# Altium integrated library Analog Devices Switches and Multiplexers Digital Crosspoint Switches.IntLib: 20 symbols (part 2 of 4)
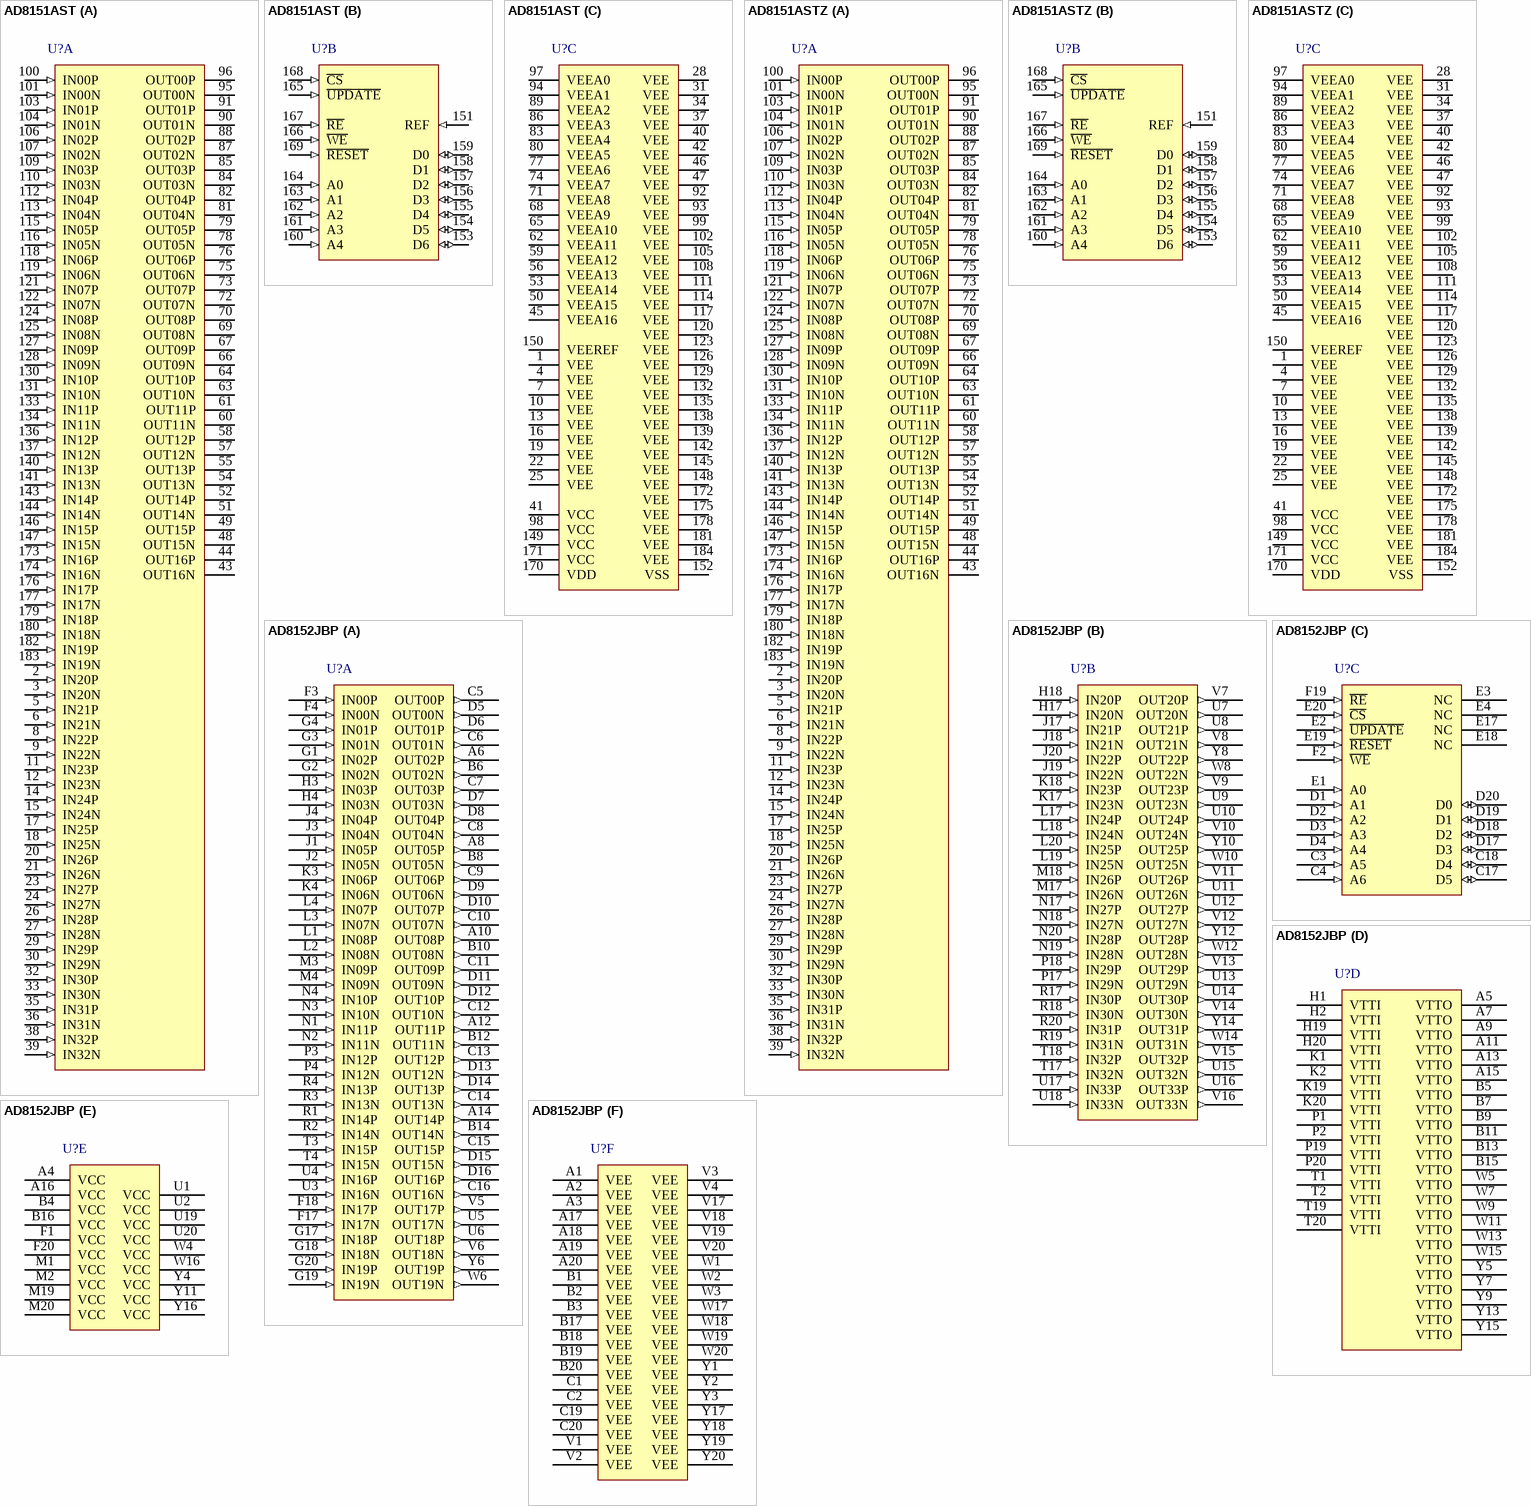
[diagram p5: symbols AD8151AST to AD8152JBP]

## AD8152JBP
designator U?
Xstream(TM) 34 x 34, 3.2 Gbps Asynchronous Digital Crosspoint Switch, 660 ps Prop Delay, 0 to 85 degC, 256-pin BGA (BP-256), Tray; Manufacturer: Analog Devices; PartNumber: AD8152JBP; Control Interface: LVCMOS/LVTTL Parallel; Data Rate (Gbps): 3.2; Input Swing (mV p-p): 50-1000; Prop Delay: 660ps; Output Rise/Fall (ps): 100; Supply Current: 800mA; Voltage Supply Level: LVPECL or CML; DatasheetVersion: Rev. A; PackageReference: BP-256; PackageDescription: 256-Ball Ball Grid Array, Body 27 x 27 mm, Pitch 1.27 mm; Supplier 1: Mouser; Supplier Part Number 1: 584-AD8152JBP; Packing: Tray; Mounting Technology: Surface Mount; Code_JEDEC: MO-192-BAL-2; ComponentLink1Description: Manufacturer URL; ComponentLink1URL: http://www.analog.com/en/index.html; ComponentLink2Description: Datasheet; ComponentLink2URL: http://www.analog.com/static/imported-files/data_sheets/AD8152.pdf; ComponentLink3Description: Package Specification; ComponentLink3URL: http://www.analog.com/static/imported-files/packages/287254833BP_256.pdf
footprint ADI-BP-256 (BGA, 256-Balls, Body 27x27mm, Pitch 1.27mm)
part A pins: A6 OUT02P (out) "High Speed Output", A8 OUT05P (out) "High Speed Output", A10 OUT08P (out) "High Speed Output", A12 OUT11P (out) "High Speed Output", A14 OUT14P (out) "High Speed Output", B6 OUT02N (out) "High Speed Output Complement", B8 OUT05N (out) "High Speed Output Complement", B10 OUT08N (out) "High Speed Output Complement", B12 OUT11N (out) "High Speed Output Complement", B14 OUT14N (out) "High Speed Output Complement", C5 OUT00P (out) "High Speed Output", C6 OUT01N (out) "High Speed Output Complement", C7 OUT03P (out) "High Speed Output", C8 OUT04N (out) "High Speed Output Complement", C9 OUT06P (out) "High Speed Output", C10 OUT07N (out) "High Speed Output Complement", C11 OUT09P (out) "High Speed Output", C12 OUT10N (out) "High Speed Output Complement", C13 OUT12P (out) "High Speed Output", C14 OUT13N (out) "High Speed Output Complement", C15 OUT15P (out) "High Speed Output", C16 OUT16N (out) "High Speed Output Complement", D5 OUT00N (out) "High Speed Output Complement", D6 OUT01P (out) "High Speed Output", D7 OUT03N (out) "High Speed Output Complement", D8 OUT04P (out) "High Speed Output", D9 OUT06N (out) "High Speed Output Complement", D10 OUT07P (out) "High Speed Output", D11 OUT09N (out) "High Speed Output Complement", D12 OUT10P (out) "High Speed Output", D13 OUT12N (out) "High Speed Output Complement", D14 OUT13P (out) "High Speed Output", D15 OUT15N (out) "High Speed Output Complement", D16 OUT16P (out) "High Speed Output", F3 IN00P (in) "High Speed Input", F4 IN00N (in) "High Speed Input Complement", F17 IN17N (in) "High Speed Input Complement", F18 IN17P (in) "High Speed Input", G1 IN02P (in) "High Speed Input", G2 IN02N (in) "High Speed Input Complement", G3 IN01N (in) "High Speed Input Complement", G4 IN01P (in) "High Speed Input", G17 IN18P (in) "High Speed Input", G18 IN18N (in) "High Speed Input Complement", G19 IN19N (in) "High Speed Input Complement", G20 IN19P (in) "High Speed Input", H3 IN03P (in) "High Speed Input", H4 IN03N (in) "High Speed Input Complement", J1 IN05P (in) "High Speed Input", J2 IN05N (in) "High Speed Input Complement", J3 IN04N (in) "High Speed Input Complement", J4 IN04P (in) "High Speed Input", K3 IN06P (in) "High Speed Input", K4 IN06N (in) "High Speed Input Complement", L1 IN08P (in) "High Speed Input", L2 IN08N (in) "High Speed Input Complement", L3 IN07N (in) "High Speed Input Complement", L4 IN07P (in) "High Speed Input", M3 IN09P (in) "High Speed Input", M4 IN09N (in) "High Speed Input Complement", N1 IN11P (in) "High Speed Input", N2 IN11N (in) "High Speed Input Complement", N3 IN10N (in) "High Speed Input Complement", N4 IN10P (in) "High Speed Input", P3 IN12P (in) "High Speed Input", P4 IN12N (in) "High Speed Input Complement", R1 IN14P (in) "High Speed Input", R2 IN14N (in) "High Speed Input Complement", R3 IN13N (in) "High Speed Input Complement", R4 IN13P (in) "High Speed Input", T3 IN15P (in) "High Speed Input", T4 IN15N (in) "High Speed Input Complement", U3 IN16N (in) "High Speed Input Complement", U4 IN16P (in) "High Speed Input", U5 OUT17N (out) "High Speed Output Complement", U6 OUT18P (out) "High Speed Output", V5 OUT17P (out) "High Speed Output", V6 OUT18N (out) "High Speed Output Complement", W6 OUT19N (out) "High Speed Output Complement", Y6 OUT19P (out) "High Speed Output"
part B pins: H17 IN20N (in) "High Speed Input Complement", H18 IN20P (in) "High Speed Input", J17 IN21P (in) "High Speed Input", J18 IN21N (in) "High Speed Input Complement", J19 IN22N (in) "High Speed Input Complement", J20 IN22P (in) "High Speed Input", K17 IN23N (in) "High Speed Input Complement", K18 IN23P (in) "High Speed Input", L17 IN24P (in) "High Speed Input", L18 IN24N (in) "High Speed Input Complement", L19 IN25N (in) "High Speed Input Complement", L20 IN25P (in) "High Speed Input", M17 IN26N (in) "High Speed Input Complement", M18 IN26P (in) "High Speed Input", N17 IN27P (in) "High Speed Input", N18 IN27N (in) "High Speed Input Complement", N19 IN28N (in) "High Speed Input Complement", N20 IN28P (in) "High Speed Input", P17 IN29N (in) "High Speed Input Complement", P18 IN29P (in) "High Speed Input", R17 IN30P (in) "High Speed Input", R18 IN30N (in) "High Speed Input Complement", R19 IN31N (in) "High Speed Input Complement", R20 IN31P (in) "High Speed Input", T17 IN32N (in) "High Speed Input Complement", T18 IN32P (in) "High Speed Input", U7 OUT20N (out) "High Speed Output Complement", U8 OUT21P (out) "High Speed Output", U9 OUT23N (out) "High Speed Output Complement", U10 OUT24P (out) "High Speed Output", U11 OUT26N (out) "High Speed Output Complement", U12 OUT27P (out) "High Speed Output", U13 OUT29N (out) "High Speed Output Complement", U14 OUT30P (out) "High Speed Output", U15 OUT32N (out) "High Speed Output Complement", U16 OUT33P (out) "High Speed Output", U17 IN33P (in) "High Speed Input", U18 IN33N (in) "High Speed Input Complement", V7 OUT20P (out) "High Speed Output", V8 OUT21N (out) "High Speed Output Complement", V9 OUT23P (out) "High Speed Output", V10 OUT24N (out) "High Speed Output Complement", V11 OUT26P (out) "High Speed Output", V12 OUT27N (out) "High Speed Output Complement", V13 OUT29P (out) "High Speed Output", V14 OUT30N (out) "High Speed Output Complement", V15 OUT32P (out) "High Speed Output", V16 OUT33N (out) "High Speed Output Complement", W8 OUT22N (out) "High Speed Output Complement", W10 OUT25N (out) "High Speed Output Complement", W12 OUT28N (out) "High Speed Output Complement", W14 OUT31N (out) "High Speed Output Complement", Y8 OUT22P (out) "High Speed Output", Y10 OUT25P (out) "High Speed Output", Y12 OUT28P (out) "High Speed Output", Y14 OUT31P (out) "High Speed Output"
part C pins: C3 A5 (in) "Output Address Pin (MSB)", C4 A6 (in) "Output Address Pin (Bank Des.)", C17 D5 (io) "Input Address Pin (MSB)", C18 D4 (io) "Input Address Pin", D1 A1 (in) "Output Address Pin", D2 A2 (in) "Output Address Pin", D3 A3 (in) "Output Address Pin", D4 A4 (in) "Output Address Pin", D17 D3 (io) "Input Address Pin", D18 D2 (io) "Input Address Pin", D19 D1 (io) "Input Address Pin", D20 D0 (io) "Input Address Pin(LSB)", E1 A0 (in) "Output Address Pin(LSB)", E2 ~{UPDATE} (in) "Second Rank Write Enable", E3 NC "Do Not Connect", E4 NC "Do Not Connect", E17 NC "Do Not Connect", E18 NC "Do Not Connect", E19 ~{RESET} (in) "Reset/Disable Outputs", E20 ~{CS} (in) "Chip Select Enable", F2 ~{WE} (in) "First Rank Write Enable", F19 ~{RE} (in) "Readback Enable"
part D pins: A5 VTTO (power) "Output Termination Supply", A7 VTTO (power) "Output Termination Supply", A9 VTTO (power) "Output Termination Supply", A11 VTTO (power) "Output Termination Supply", A13 VTTO (power) "Output Termination Supply", A15 VTTO (power) "Output Termination Supply", B5 VTTO (power) "Output Termination Supply", B7 VTTO (power) "Output Termination Supply", B9 VTTO (power) "Output Termination Supply", B11 VTTO (power) "Output Termination Supply", B13 VTTO (power) "Output Termination Supply", B15 VTTO (power) "Output Termination Supply", H1 VTTI (power) "Input Termination Supply", H2 VTTI (power) "Input Termination Supply", H19 VTTI (power) "Input Termination Supply", H20 VTTI (power) "Input Termination Supply", K1 VTTI (power) "Input Termination Supply", K2 VTTI (power) "Input Termination Supply", K19 VTTI (power) "Input Termination Supply", K20 VTTI (power) "Input Termination Supply", P1 VTTI (power) "Input Termination Supply", P2 VTTI (power) "Input Termination Supply", P19 VTTI (power) "Input Termination Supply", P20 VTTI (power) "Input Termination Supply", T1 VTTI (power) "Input Termination Supply", T2 VTTI (power) "Input Termination Supply", T19 VTTI (power) "Input Termination Supply", T20 VTTI (power) "Input Termination Supply", W5 VTTO (power) "Output Termination Supply", W7 VTTO (power) "Output Termination Supply", W9 VTTO (power) "Output Termination Supply", W11 VTTO (power) "Output Termination Supply", W13 VTTO (power) "Output Termination Supply", W15 VTTO (power) "Output Termination Supply", Y5 VTTO (power) "Output Termination Supply", Y7 VTTO (power) "Output Termination Supply", Y9 VTTO (power) "Output Termination Supply", Y13 VTTO (power) "Output Termination Supply", Y15 VTTO (power) "Output Termination Supply"
part E pins: A4 VCC (power) "Positive Supply", A16 VCC (power) "Positive Supply", B4 VCC (power) "Positive Supply", B16 VCC (power) "Positive Supply", F1 VCC (power) "Positive Supply", F20 VCC (power) "Positive Supply", M1 VCC (power) "Positive Supply", M2 VCC (power) "Positive Supply", M19 VCC (power) "Positive Supply", M20 VCC (power) "Positive Supply", U1 VCC (power) "Positive Supply", U2 VCC (power) "Positive Supply", U19 VCC (power) "Positive Supply", U20 VCC (power) "Positive Supply", W4 VCC (power) "Positive Supply", W16 VCC (power) "Positive Supply", Y4 VCC (power) "Positive Supply", Y11 VCC (power) "Positive Supply", Y16 VCC (power) "Positive Supply"
part F pins: A1 VEE (power) "Negative Supply", A2 VEE (power) "Negative Supply", A3 VEE (power) "Negative Supply", A17 VEE (power) "Negative Supply", A18 VEE (power) "Negative Supply", A19 VEE (power) "Negative Supply", A20 VEE (power) "Negative Supply", B1 VEE (power) "Negative Supply", B2 VEE (power) "Negative Supply", B3 VEE (power) "Negative Supply", B17 VEE (power) "Negative Supply", B18 VEE (power) "Negative Supply", B19 VEE (power) "Negative Supply", B20 VEE (power) "Negative Supply", C1 VEE (power) "Negative Supply", C2 VEE (power) "Negative Supply", C19 VEE (power) "Negative Supply", C20 VEE (power) "Negative Supply", V1 VEE (power) "Negative Supply", V2 VEE (power) "Negative Supply", V3 VEE (power) "Negative Supply", V4 VEE (power) "Negative Supply", V17 VEE (power) "Negative Supply", V18 VEE (power) "Negative Supply", V19 VEE (power) "Negative Supply", V20 VEE (power) "Negative Supply", W1 VEE (power) "Negative Supply", W2 VEE (power) "Negative Supply", W3 VEE (power) "Negative Supply", W17 VEE (power) "Negative Supply", W18 VEE (power) "Negative Supply", W19 VEE (power) "Negative Supply", W20 VEE (power) "Negative Supply", Y1 VEE (power) "Negative Supply", Y2 VEE (power) "Negative Supply", Y3 VEE (power) "Negative Supply", Y17 VEE (power) "Negative Supply", Y18 VEE (power) "Negative Supply", Y19 VEE (power) "Negative Supply", Y20 VEE (power) "Negative Supply"

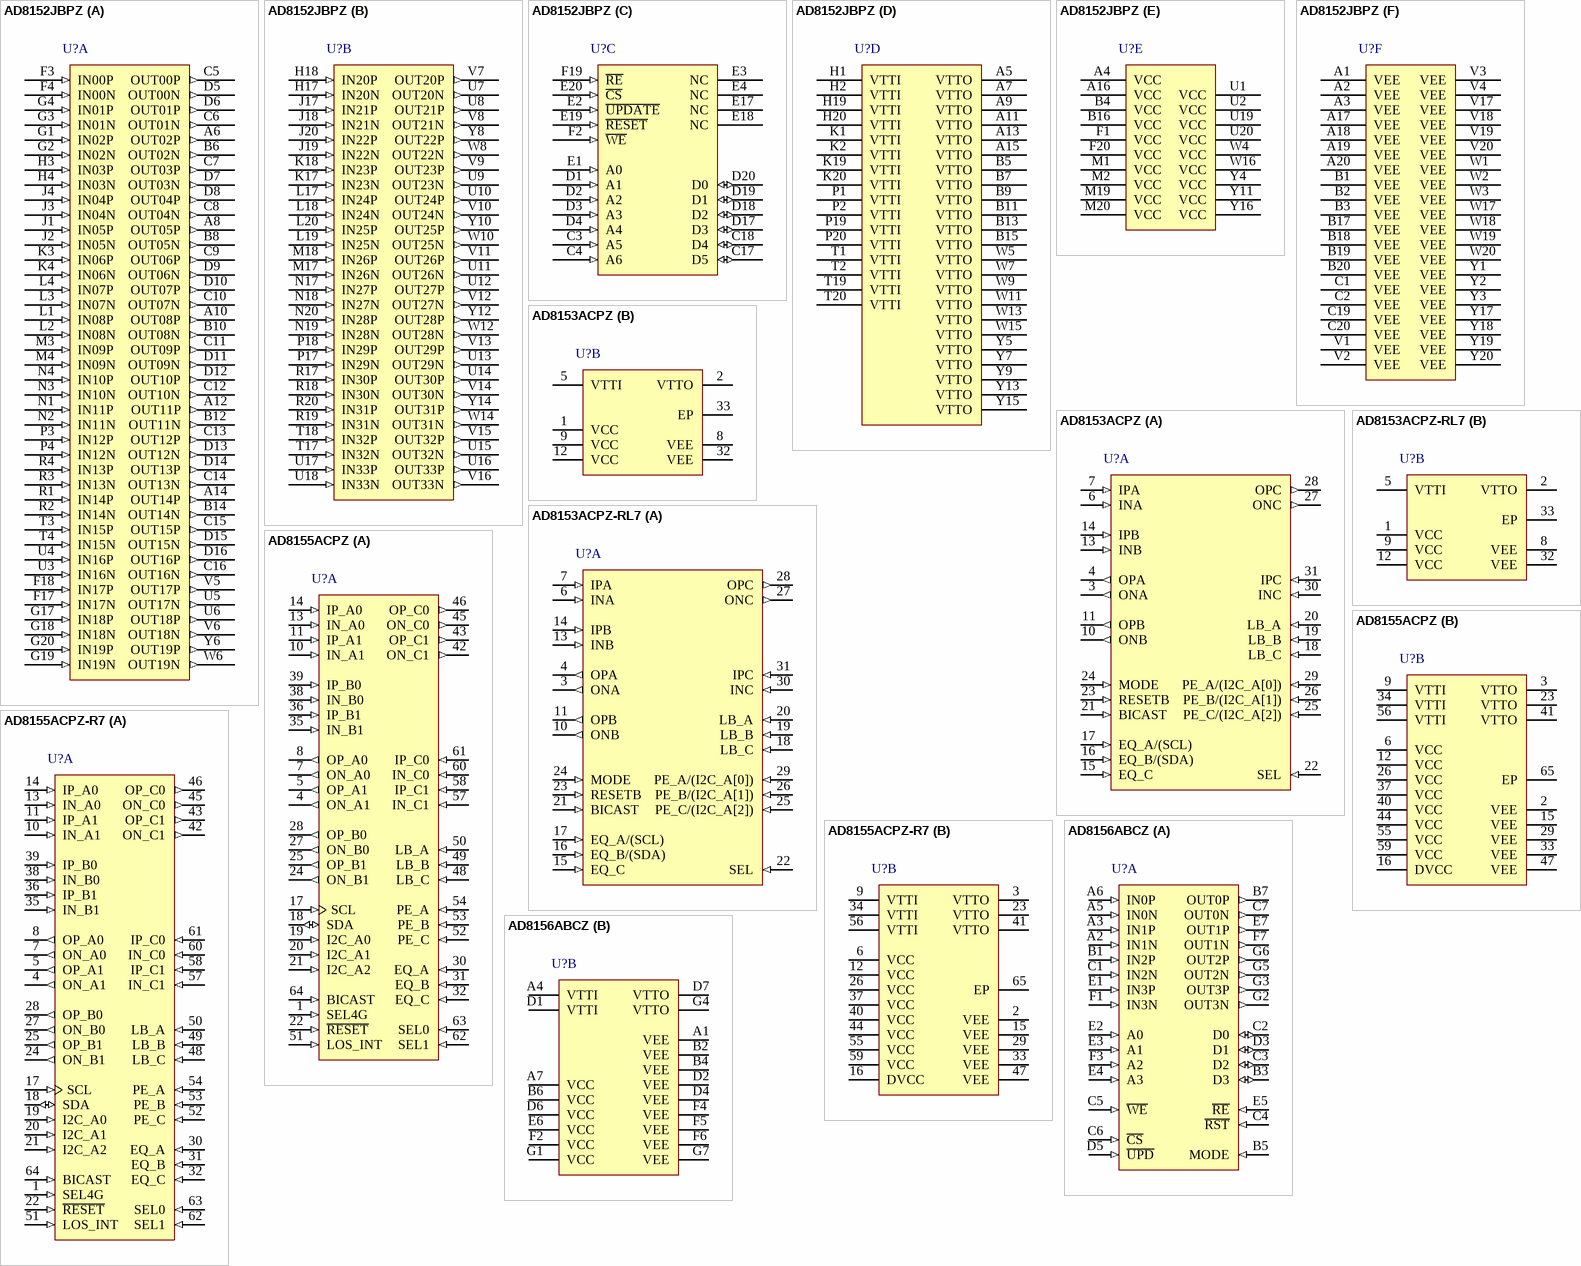
[diagram p2: symbols AD8152JBPZ to AD8156ABCZ]

## AD8152JBPZ
designator U?
Xstream(TM) 34 x 34, 3.2 Gbps Asynchronous Digital Crosspoint Switch, 660 ps Prop Delay, 0 to 85 degC, 256-pin BGA (BP-256), Tray; Manufacturer: Analog Devices; PartNumber: AD8152JBPZ; Control Interface: LVCMOS/LVTTL Parallel; Data Rate (Gbps): 3.2; Input Swing (mV p-p): 50-1000; Prop Delay: 660ps; Output Rise/Fall (ps): 100; Supply Current: 800mA; Voltage Supply Level: LVPECL or CML; DatasheetVersion: Rev. A; PackageReference: BP-256; PackageDescription: 256-Ball Ball Grid Array, Body 27 x 27 mm, Pitch 1.27 mm; Supplier 1: Digi-Key; Supplier Part Number 1: AD8152JBPZ-ND; Supplier 2: Newark; Supplier Part Number 2: 59K6445; Supplier 3: Mouser; Supplier Part Number 3: 584-AD8152JBPZ; Packing: Tray; Mounting Technology: Surface Mount; Code_JEDEC: MO-192-BAL-2; ComponentLink1Description: Manufacturer URL; ComponentLink1URL: http://www.analog.com/en/index.html; ComponentLink2Description: Datasheet; ComponentLink2URL: http://www.analog.com/static/imported-files/data_sheets/AD8152.pdf; ComponentLink3Description: Package Specification; ComponentLink3URL: http://www.analog.com/static/imported-files/packages/287254833BP_256.pdf
footprint ADI-BP-256 (BGA, 256-Balls, Body 27x27mm, Pitch 1.27mm)
part A pins: A6 OUT02P (out) "High Speed Output", A8 OUT05P (out) "High Speed Output", A10 OUT08P (out) "High Speed Output", A12 OUT11P (out) "High Speed Output", A14 OUT14P (out) "High Speed Output", B6 OUT02N (out) "High Speed Output Complement", B8 OUT05N (out) "High Speed Output Complement", B10 OUT08N (out) "High Speed Output Complement", B12 OUT11N (out) "High Speed Output Complement", B14 OUT14N (out) "High Speed Output Complement", C5 OUT00P (out) "High Speed Output", C6 OUT01N (out) "High Speed Output Complement", C7 OUT03P (out) "High Speed Output", C8 OUT04N (out) "High Speed Output Complement", C9 OUT06P (out) "High Speed Output", C10 OUT07N (out) "High Speed Output Complement", C11 OUT09P (out) "High Speed Output", C12 OUT10N (out) "High Speed Output Complement", C13 OUT12P (out) "High Speed Output", C14 OUT13N (out) "High Speed Output Complement", C15 OUT15P (out) "High Speed Output", C16 OUT16N (out) "High Speed Output Complement", D5 OUT00N (out) "High Speed Output Complement", D6 OUT01P (out) "High Speed Output", D7 OUT03N (out) "High Speed Output Complement", D8 OUT04P (out) "High Speed Output", D9 OUT06N (out) "High Speed Output Complement", D10 OUT07P (out) "High Speed Output", D11 OUT09N (out) "High Speed Output Complement", D12 OUT10P (out) "High Speed Output", D13 OUT12N (out) "High Speed Output Complement", D14 OUT13P (out) "High Speed Output", D15 OUT15N (out) "High Speed Output Complement", D16 OUT16P (out) "High Speed Output", F3 IN00P (in) "High Speed Input", F4 IN00N (in) "High Speed Input Complement", F17 IN17N (in) "High Speed Input Complement", F18 IN17P (in) "High Speed Input", G1 IN02P (in) "High Speed Input", G2 IN02N (in) "High Speed Input Complement", G3 IN01N (in) "High Speed Input Complement", G4 IN01P (in) "High Speed Input", G17 IN18P (in) "High Speed Input", G18 IN18N (in) "High Speed Input Complement", G19 IN19N (in) "High Speed Input Complement", G20 IN19P (in) "High Speed Input", H3 IN03P (in) "High Speed Input", H4 IN03N (in) "High Speed Input Complement", J1 IN05P (in) "High Speed Input", J2 IN05N (in) "High Speed Input Complement", J3 IN04N (in) "High Speed Input Complement", J4 IN04P (in) "High Speed Input", K3 IN06P (in) "High Speed Input", K4 IN06N (in) "High Speed Input Complement", L1 IN08P (in) "High Speed Input", L2 IN08N (in) "High Speed Input Complement", L3 IN07N (in) "High Speed Input Complement", L4 IN07P (in) "High Speed Input", M3 IN09P (in) "High Speed Input", M4 IN09N (in) "High Speed Input Complement", N1 IN11P (in) "High Speed Input", N2 IN11N (in) "High Speed Input Complement", N3 IN10N (in) "High Speed Input Complement", N4 IN10P (in) "High Speed Input", P3 IN12P (in) "High Speed Input", P4 IN12N (in) "High Speed Input Complement", R1 IN14P (in) "High Speed Input", R2 IN14N (in) "High Speed Input Complement", R3 IN13N (in) "High Speed Input Complement", R4 IN13P (in) "High Speed Input", T3 IN15P (in) "High Speed Input", T4 IN15N (in) "High Speed Input Complement", U3 IN16N (in) "High Speed Input Complement", U4 IN16P (in) "High Speed Input", U5 OUT17N (out) "High Speed Output Complement", U6 OUT18P (out) "High Speed Output", V5 OUT17P (out) "High Speed Output", V6 OUT18N (out) "High Speed Output Complement", W6 OUT19N (out) "High Speed Output Complement", Y6 OUT19P (out) "High Speed Output"
part B pins: H17 IN20N (in) "High Speed Input Complement", H18 IN20P (in) "High Speed Input", J17 IN21P (in) "High Speed Input", J18 IN21N (in) "High Speed Input Complement", J19 IN22N (in) "High Speed Input Complement", J20 IN22P (in) "High Speed Input", K17 IN23N (in) "High Speed Input Complement", K18 IN23P (in) "High Speed Input", L17 IN24P (in) "High Speed Input", L18 IN24N (in) "High Speed Input Complement", L19 IN25N (in) "High Speed Input Complement", L20 IN25P (in) "High Speed Input", M17 IN26N (in) "High Speed Input Complement", M18 IN26P (in) "High Speed Input", N17 IN27P (in) "High Speed Input", N18 IN27N (in) "High Speed Input Complement", N19 IN28N (in) "High Speed Input Complement", N20 IN28P (in) "High Speed Input", P17 IN29N (in) "High Speed Input Complement", P18 IN29P (in) "High Speed Input", R17 IN30P (in) "High Speed Input", R18 IN30N (in) "High Speed Input Complement", R19 IN31N (in) "High Speed Input Complement", R20 IN31P (in) "High Speed Input", T17 IN32N (in) "High Speed Input Complement", T18 IN32P (in) "High Speed Input", U7 OUT20N (out) "High Speed Output Complement", U8 OUT21P (out) "High Speed Output", U9 OUT23N (out) "High Speed Output Complement", U10 OUT24P (out) "High Speed Output", U11 OUT26N (out) "High Speed Output Complement", U12 OUT27P (out) "High Speed Output", U13 OUT29N (out) "High Speed Output Complement", U14 OUT30P (out) "High Speed Output", U15 OUT32N (out) "High Speed Output Complement", U16 OUT33P (out) "High Speed Output", U17 IN33P (in) "High Speed Input", U18 IN33N (in) "High Speed Input Complement", V7 OUT20P (out) "High Speed Output", V8 OUT21N (out) "High Speed Output Complement", V9 OUT23P (out) "High Speed Output", V10 OUT24N (out) "High Speed Output Complement", V11 OUT26P (out) "High Speed Output", V12 OUT27N (out) "High Speed Output Complement", V13 OUT29P (out) "High Speed Output", V14 OUT30N (out) "High Speed Output Complement", V15 OUT32P (out) "High Speed Output", V16 OUT33N (out) "High Speed Output Complement", W8 OUT22N (out) "High Speed Output Complement", W10 OUT25N (out) "High Speed Output Complement", W12 OUT28N (out) "High Speed Output Complement", W14 OUT31N (out) "High Speed Output Complement", Y8 OUT22P (out) "High Speed Output", Y10 OUT25P (out) "High Speed Output", Y12 OUT28P (out) "High Speed Output", Y14 OUT31P (out) "High Speed Output"
part C pins: C3 A5 (in) "Output Address Pin (MSB)", C4 A6 (in) "Output Address Pin (Bank Des.)", C17 D5 (io) "Input Address Pin (MSB)", C18 D4 (io) "Input Address Pin", D1 A1 (in) "Output Address Pin", D2 A2 (in) "Output Address Pin", D3 A3 (in) "Output Address Pin", D4 A4 (in) "Output Address Pin", D17 D3 (io) "Input Address Pin", D18 D2 (io) "Input Address Pin", D19 D1 (io) "Input Address Pin", D20 D0 (io) "Input Address Pin(LSB)", E1 A0 (in) "Output Address Pin(LSB)", E2 ~{UPDATE} (in) "Second Rank Write Enable", E3 NC "Do Not Connect", E4 NC "Do Not Connect", E17 NC "Do Not Connect", E18 NC "Do Not Connect", E19 ~{RESET} (in) "Reset/Disable Outputs", E20 ~{CS} (in) "Chip Select Enable", F2 ~{WE} (in) "First Rank Write Enable", F19 ~{RE} (in) "Readback Enable"
part D pins: A5 VTTO (power) "Output Termination Supply", A7 VTTO (power) "Output Termination Supply", A9 VTTO (power) "Output Termination Supply", A11 VTTO (power) "Output Termination Supply", A13 VTTO (power) "Output Termination Supply", A15 VTTO (power) "Output Termination Supply", B5 VTTO (power) "Output Termination Supply", B7 VTTO (power) "Output Termination Supply", B9 VTTO (power) "Output Termination Supply", B11 VTTO (power) "Output Termination Supply", B13 VTTO (power) "Output Termination Supply", B15 VTTO (power) "Output Termination Supply", H1 VTTI (power) "Input Termination Supply", H2 VTTI (power) "Input Termination Supply", H19 VTTI (power) "Input Termination Supply", H20 VTTI (power) "Input Termination Supply", K1 VTTI (power) "Input Termination Supply", K2 VTTI (power) "Input Termination Supply", K19 VTTI (power) "Input Termination Supply", K20 VTTI (power) "Input Termination Supply", P1 VTTI (power) "Input Termination Supply", P2 VTTI (power) "Input Termination Supply", P19 VTTI (power) "Input Termination Supply", P20 VTTI (power) "Input Termination Supply", T1 VTTI (power) "Input Termination Supply", T2 VTTI (power) "Input Termination Supply", T19 VTTI (power) "Input Termination Supply", T20 VTTI (power) "Input Termination Supply", W5 VTTO (power) "Output Termination Supply", W7 VTTO (power) "Output Termination Supply", W9 VTTO (power) "Output Termination Supply", W11 VTTO (power) "Output Termination Supply", W13 VTTO (power) "Output Termination Supply", W15 VTTO (power) "Output Termination Supply", Y5 VTTO (power) "Output Termination Supply", Y7 VTTO (power) "Output Termination Supply", Y9 VTTO (power) "Output Termination Supply", Y13 VTTO (power) "Output Termination Supply", Y15 VTTO (power) "Output Termination Supply"
part E pins: A4 VCC (power) "Positive Supply", A16 VCC (power) "Positive Supply", B4 VCC (power) "Positive Supply", B16 VCC (power) "Positive Supply", F1 VCC (power) "Positive Supply", F20 VCC (power) "Positive Supply", M1 VCC (power) "Positive Supply", M2 VCC (power) "Positive Supply", M19 VCC (power) "Positive Supply", M20 VCC (power) "Positive Supply", U1 VCC (power) "Positive Supply", U2 VCC (power) "Positive Supply", U19 VCC (power) "Positive Supply", U20 VCC (power) "Positive Supply", W4 VCC (power) "Positive Supply", W16 VCC (power) "Positive Supply", Y4 VCC (power) "Positive Supply", Y11 VCC (power) "Positive Supply", Y16 VCC (power) "Positive Supply"
part F pins: A1 VEE (power) "Negative Supply", A2 VEE (power) "Negative Supply", A3 VEE (power) "Negative Supply", A17 VEE (power) "Negative Supply", A18 VEE (power) "Negative Supply", A19 VEE (power) "Negative Supply", A20 VEE (power) "Negative Supply", B1 VEE (power) "Negative Supply", B2 VEE (power) "Negative Supply", B3 VEE (power) "Negative Supply", B17 VEE (power) "Negative Supply", B18 VEE (power) "Negative Supply", B19 VEE (power) "Negative Supply", B20 VEE (power) "Negative Supply", C1 VEE (power) "Negative Supply", C2 VEE (power) "Negative Supply", C19 VEE (power) "Negative Supply", C20 VEE (power) "Negative Supply", V1 VEE (power) "Negative Supply", V2 VEE (power) "Negative Supply", V3 VEE (power) "Negative Supply", V4 VEE (power) "Negative Supply", V17 VEE (power) "Negative Supply", V18 VEE (power) "Negative Supply", V19 VEE (power) "Negative Supply", V20 VEE (power) "Negative Supply", W1 VEE (power) "Negative Supply", W2 VEE (power) "Negative Supply", W3 VEE (power) "Negative Supply", W17 VEE (power) "Negative Supply", W18 VEE (power) "Negative Supply", W19 VEE (power) "Negative Supply", W20 VEE (power) "Negative Supply", Y1 VEE (power) "Negative Supply", Y2 VEE (power) "Negative Supply", Y3 VEE (power) "Negative Supply", Y17 VEE (power) "Negative Supply", Y18 VEE (power) "Negative Supply", Y19 VEE (power) "Negative Supply", Y20 VEE (power) "Negative Supply"

## AD8153ACPZ
designator U?
Xstream(TM) 3.2 Gbps Single Buffered Mux / Demux Switch, 640 ps Prop Delay, -40 to 85 degC, 32-pin QFN (CP-32-8), Tray; Manufacturer: Analog Devices; PartNumber: AD8153ACPZ; Control Interface: I2C; Data Rate (Gbps): 3.2; Input Swing (mV p-p): 200-2000; Prop Delay: 640ps; Output Rise/Fall (ps): 85; Supply Current: 63mA; DatasheetVersion: Rev. 0; PackageVersion: 080306-A, 08/2006; PackageReference: CP-32-8; PackageDescription: 32-Pin Lead Frame Chip Scale Package, Body 5 x 5 mm, Pitch 0.5 mm; Supplier 1: Digi-Key; Supplier Part Number 1: AD8153ACPZ-ND; Supplier 2: Mouser; Supplier Part Number 2: 584-AD8153ACPZ; Packing: Tray; Mounting Technology: Surface Mount; Code_JEDEC: MO-220-VHHD-2; ComponentLink1Description: Manufacturer URL; ComponentLink1URL: http://www.analog.com/en/index.html; ComponentLink2Description: Datasheet; ComponentLink2URL: http://www.analog.com/static/imported-files/data_sheets/AD8153.pdf; ComponentLink3Description: Package Specification; ComponentLink3URL: http://www.analog.com/static/imported-files/packages/3743763361381667927CP_32_8.pdf
footprint ADI-CP-32-8_N (QFN, 32-Leads, Body 5x5mm, Pitch 0.5mm, Thermal Pad 2.7x2.7mm, IPC Medium Density)
footprint ADI-CP-32-8_L (QFN, 32-Leads, Body 5x5mm, Pitch 0.5mm, Thermal Pad 2.7x2.7mm, IPC High Density)
footprint ADI-CP-32-8_M (QFN, 32-Leads, Body 5x5mm, Pitch 0.5mm, Thermal Pad 2.7x2.7mm, IPC Low Density)
part A pins: 3 ONA (out) "High Speed Output Complement.", 4 OPA (out) "High Speed Output.", 6 INA (in) "High Speed Input Complement.", 7 IPA (in) "High Speed Input.", 10 ONB (out) "High Speed Output Complement.", 11 OPB (out) "High Speed Output.", 13 INB (in) "High Speed Input Complement.", 14 IPB (in) "High Speed Input.", 15 EQ_C (in) "Port C Input Equalization Control.", 16 EQ_B/(SDA) (in) "Port B Input Equalization Control/(I2C Data when MODE = 1).", 17 EQ_A/(SCL) (in) "Port A Input Equalization Control/(I2C Clock when MODE = 1).", 18 LB_C (in) "Port C Loopback Enable.", 19 LB_B (in) "Port B Loopback Enable.", 20 LB_A (in) "Port A Loopback Enable.", 21 BICAST (in) "Bicast Enable.", 22 SEL (in) "A/B Select.", 23 RESETB (in) "Configuration Registers Reset.", 24 MODE (in) "Configuration Mode. 1 for Serial/Mixed Mode, 0 for Pin Mode.", 25 PE_C/(I2C_A[2]) (in) "Port C Pre-Emphasis Control/(I2C Slave Address Bit 2 when MODE = 1).", 26 PE_B/(I2C_A[1]) (in) "Port B Pre-Emphasis Control/(I2C Slave Address Bit 1 when MODE = 1).", 27 ONC (out) "High Speed Output Complement.", 28 OPC (out) "High Speed Output.", 29 PE_A/(I2C_A[0]) (in) "Port A Pre-Emphasis Control/(I2C Slave Address Bit 0 when MODE = 1).", 30 INC (in) "High Speed Input Complement.", 31 IPC (in) "High Speed Output."
part B pins: 1 VCC (power) "Positive Supply.", 2 VTTO (power) "Output Termination Supply.", 5 VTTI (power) "Input Termination Supply.", 8 VEE (power) "Negative Supply.", 9 VCC (power) "Positive Supply.", 12 VCC (power) "Positive Supply.", 32 VEE (power) "Negative Supply.", 33 EP (power) "Negative Supply."

## AD8153ACPZ-RL7
designator U?
Xstream(TM) 3.2 Gbps Single Buffered Mux / Demux Switch, 640 ps Prop Delay, -40 to 85 degC, 32-pin QFN (CP-32-8), Reel; Manufacturer: Analog Devices; PartNumber: AD8153ACPZ-RL7; Control Interface: I2C; Data Rate (Gbps): 3.2; Input Swing (mV p-p): 200-2000; Prop Delay: 640ps; Output Rise/Fall (ps): 85; Supply Current: 63mA; DatasheetVersion: Rev. 0; PackageVersion: 080306-A, 08/2006; PackageReference: CP-32-8; PackageDescription: 32-Pin Lead Frame Chip Scale Package, Body 5 x 5 mm, Pitch 0.5 mm; Supplier 1: Digi-Key; Supplier Part Number 1: AD8153ACPZ-RL7TR-ND; Supplier 2: Digi-Key; Supplier Part Number 2: AD8153ACPZ-RL7CT-ND; Supplier 3: Digi-Key; Supplier Part Number 3: AD8153ACPZ-RL7DKR-ND; Supplier 4: Mouser; Supplier Part Number 4: 584-AD8153ACPZ-R7; Packing: Reel; Mounting Technology: Surface Mount; Code_JEDEC: MO-220-VHHD-2; ComponentLink1Description: Manufacturer URL; ComponentLink1URL: http://www.analog.com/en/index.html; ComponentLink2Description: Datasheet; ComponentLink2URL: http://www.analog.com/static/imported-files/data_sheets/AD8153.pdf; ComponentLink3Description: Package Specification; ComponentLink3URL: http://www.analog.com/static/imported-files/packages/3743763361381667927CP_32_8.pdf
footprint ADI-CP-32-8_N (QFN, 32-Leads, Body 5x5mm, Pitch 0.5mm, Thermal Pad 2.7x2.7mm, IPC Medium Density)
footprint ADI-CP-32-8_L (QFN, 32-Leads, Body 5x5mm, Pitch 0.5mm, Thermal Pad 2.7x2.7mm, IPC High Density)
footprint ADI-CP-32-8_M (QFN, 32-Leads, Body 5x5mm, Pitch 0.5mm, Thermal Pad 2.7x2.7mm, IPC Low Density)
part A pins: 3 ONA (out) "High Speed Output Complement.", 4 OPA (out) "High Speed Output.", 6 INA (in) "High Speed Input Complement.", 7 IPA (in) "High Speed Input.", 10 ONB (out) "High Speed Output Complement.", 11 OPB (out) "High Speed Output.", 13 INB (in) "High Speed Input Complement.", 14 IPB (in) "High Speed Input.", 15 EQ_C (in) "Port C Input Equalization Control.", 16 EQ_B/(SDA) (in) "Port B Input Equalization Control/(I2C Data when MODE = 1).", 17 EQ_A/(SCL) (in) "Port A Input Equalization Control/(I2C Clock when MODE = 1).", 18 LB_C (in) "Port C Loopback Enable.", 19 LB_B (in) "Port B Loopback Enable.", 20 LB_A (in) "Port A Loopback Enable.", 21 BICAST (in) "Bicast Enable.", 22 SEL (in) "A/B Select.", 23 RESETB (in) "Configuration Registers Reset.", 24 MODE (in) "Configuration Mode. 1 for Serial/Mixed Mode, 0 for Pin Mode.", 25 PE_C/(I2C_A[2]) (in) "Port C Pre-Emphasis Control/(I2C Slave Address Bit 2 when MODE = 1).", 26 PE_B/(I2C_A[1]) (in) "Port B Pre-Emphasis Control/(I2C Slave Address Bit 1 when MODE = 1).", 27 ONC (out) "High Speed Output Complement.", 28 OPC (out) "High Speed Output.", 29 PE_A/(I2C_A[0]) (in) "Port A Pre-Emphasis Control/(I2C Slave Address Bit 0 when MODE = 1).", 30 INC (in) "High Speed Input Complement.", 31 IPC (in) "High Speed Output."
part B pins: 1 VCC (power) "Positive Supply.", 2 VTTO (power) "Output Termination Supply.", 5 VTTI (power) "Input Termination Supply.", 8 VEE (power) "Negative Supply.", 9 VCC (power) "Positive Supply.", 12 VCC (power) "Positive Supply.", 32 VEE (power) "Negative Supply.", 33 EP (power) "Negative Supply."

## AD8155ACPZ
designator U?
Xstream(TM) 6.5 Gbps Dual Buffer Mux / Demux, 700 ps Prop Delay, -40 to 85 degC, 64-pin QFN (CP-64-2), Tray; Manufacturer: Analog Devices; PartNumber: AD8155ACPZ; Control Interface: I2C; Data Rate (Gbps): 6.5; Input Swing (mV p-p): 200-2000; Prop Delay: 700ps; Output Rise/Fall (ps): 62; Supply Current: 850mA; DatasheetVersion: Rev. 0; PackageReference: CP-64-2; PackageDescription: 64-Pin Lead Frame Chip Scale Package, Body 9 x 9 mm, Pitch 0.5 mm; Supplier 1: Digi-Key; Supplier Part Number 1: AD8155ACPZ-ND; Supplier 2: Newark; Supplier Part Number 2: 26R2474; Supplier 3: Mouser; Supplier Part Number 3: 584-AD8155ACPZ; Packing: Tray; Mounting Technology: Surface Mount; Code_JEDEC: MO-220-VMMD-4; ComponentLink1Description: Manufacturer URL; ComponentLink1URL: http://www.analog.com/en/index.html; ComponentLink2Description: Datasheet; ComponentLink2URL: http://www.analog.com/static/imported-files/data_sheets/AD8155.pdf; ComponentLink3Description: Package Specification; ComponentLink3URL: http://www.analog.com/static/imported-files/packages/CP_64_2.pdf
footprint ADI-CP-64-2_N (QFN, 64-Leads, Body 9x9mm, Pitch 0.5mm, Thermal Pad 6x6mm, IPC Medium Density)
footprint ADI-CP-64-2_L (QFN, 64-Leads, Body 9x9mm, Pitch 0.5mm, Thermal Pad 6x6mm, IPC High Density)
footprint ADI-CP-64-2_M (QFN, 64-Leads, Body 9x9mm, Pitch 0.5mm, Thermal Pad 6x6mm, IPC Low Density)
part A pins: 1 SEL4G (in) "Set Transmitter for Low Speed PE, Active High.", 4 ON_A1 (out) "High Speed Output Complement.", 5 OP_A1 (out) "High Speed Output.", 7 ON_A0 (out) "High Speed Output Complement.", 8 OP_A0 (out) "High Speed Output.", 10 IN_A1 (in) "High Speed Input Complement.", 11 IP_A1 (in) "High Speed Input.", 13 IN_A0 (in) "High Speed Input Complement.", 14 IP_A0 (in) "High Speed Input.", 17 SCL (in) "I2C Clock Input.", 18 SDA (io) "I2C Data Input/Output.", 19 I2C_A0 (in) "I2C Address Input (LSB).", 20 I2C_A1 (in) "I2C Address Input.", 21 I2C_A2 (in) "I2C Address Input (MSB).", 22 ~{RESET} (in) "Device Reset, Active Low.", 24 ON_B1 (out) "High Speed Output Complement.", 25 OP_B1 (out) "High Speed Output.", 27 ON_B0 (out) "High Speed Output Complement.", 28 OP_B0 (out) "High Speed Output.", 30 EQ_A (in) "Port A Equalizer Control Input.", 31 EQ_B (in) "Port B Equalizer Control Input.", 32 EQ_C (in) "Port C Equalizer Control Input.", 35 IN_B1 (in) "High Speed Input Complement.", 36 IP_B1 (in) "High Speed Input.", 38 IN_B0 (in) "High Speed Input Complement.", 39 IP_B0 (in) "High Speed Input.", 42 ON_C1 (out) "High Speed Output Complement.", 43 OP_C1 (out) "High Speed Output.", 45 ON_C0 (out) "High Speed Output Complement.", 46 OP_C0 (out) "High Speed Output.", 48 LB_C (in) "Port A Loopback Control Input, Active High.", 49 LB_B (in) "Port B Loopback Control Input, Active High.", 50 LB_A (in) "Port C Loopback Control Input, Active High.", 51 LOS_INT (in) "Loss of Signal Interrupt, Active High. Initialization sequence required; see the Applications Information section.", 52 PE_C (in) "Port A Preemphasis Control Input, Active High.", 53 PE_B (in) "Port B Preemphasis Control Input, Active High.", 54 PE_A (in) "Port C Preemphasis Control Input, Active High.", 57 IN_C1 (in) "High Speed Input Complement.", 58 IP_C1 (in) "High Speed Input.", 60 IN_C0 (in) "High Speed Input Complement.", 61 IP_C0 (in) "High Speed Input.", 62 SEL1 (in) "Lane 1 A/B Switch Control Input.", 63 SEL0 (in) "Lane 0 A/B Switch Control Input.", 64 BICAST (in) "Enable Bicast for Port A and Port B Outputs, Active High."
part B pins: 2 VEE (power) "Negative Supply. The exposed pad on the bottom of the package must be electrically connected to VEE.", 3 VTTO (power) "Port A, Port B, and Port C Output Termination Supply.", 6 VCC (power) "Positive Supply.", 9 VTTI (power) "Port A, Port B, and Port C Input Termination Supply.", 12 VCC (power) "Positive Supply.", 15 VEE (power) "Negative Supply. The exposed pad on the bottom of the package must be electrically connected to VEE.", 16 DVCC (power) "Digital Power Supply.", 23 VTTO (power) "Port A, Port B, and Port C Output Termination Supply.", 26 VCC (power) "Positive Supply.", 29 VEE (power) "Negative Supply. The exposed pad on the bottom of the package must be electrically connected to VEE.", 33 VEE (power) "Negative Supply. The exposed pad on the bottom of the package must be electrically connected to VEE.", 34 VTTI (power) "Port A, Port B, and Port C Input Termination Supply.", 37 VCC (power) "Positive Supply.", 40 VCC (power) "Positive Supply.", 41 VTTO (power) "Port A, Port B, and Port C Output Termination Supply.", 44 VCC (power) "Positive Supply.", 47 VEE (power) "Negative Supply. The exposed pad on the bottom of the package must be electrically connected to VEE.", 55 VCC (power) "Positive Supply.", 56 VTTI (power) "Port A, Port B, and Port C Input Termination Supply.", 59 VCC (power) "Positive Supply.", 65 EP (power) "Negative Supply. The exposed pad on the bottom of the package must be electrically connected to VEE."

## AD8155ACPZ-R7
designator U?
Xstream(TM) 6.5 Gbps Dual Buffer Mux / Demux, 700 ps Prop Delay, -40 to 85 degC, 64-pin QFN (CP-64-2), Reel; Manufacturer: Analog Devices; PartNumber: AD8155ACPZ-R7; Control Interface: I2C; Data Rate (Gbps): 6.5; Input Swing (mV p-p): 200-2000; Prop Delay: 700ps; Output Rise/Fall (ps): 62; Supply Current: 850mA; DatasheetVersion: Rev. 0; PackageReference: CP-64-2; PackageDescription: 64-Pin Lead Frame Chip Scale Package, Body 9 x 9 mm, Pitch 0.5 mm; Supplier 1: Digi-Key; Supplier Part Number 1: AD8155ACPZ-R7-ND; Supplier 2: Mouser; Supplier Part Number 2: 584-AD8155ACPZ-R7; Packing: Reel; Mounting Technology: Surface Mount; Code_JEDEC: MO-220-VMMD-4; ComponentLink1Description: Manufacturer URL; ComponentLink1URL: http://www.analog.com/en/index.html; ComponentLink2Description: Datasheet; ComponentLink2URL: http://www.analog.com/static/imported-files/data_sheets/AD8155.pdf; ComponentLink3Description: Package Specification; ComponentLink3URL: http://www.analog.com/static/imported-files/packages/CP_64_2.pdf
footprint ADI-CP-64-2_N (QFN, 64-Leads, Body 9x9mm, Pitch 0.5mm, Thermal Pad 6x6mm, IPC Medium Density)
footprint ADI-CP-64-2_L (QFN, 64-Leads, Body 9x9mm, Pitch 0.5mm, Thermal Pad 6x6mm, IPC High Density)
footprint ADI-CP-64-2_M (QFN, 64-Leads, Body 9x9mm, Pitch 0.5mm, Thermal Pad 6x6mm, IPC Low Density)
part A pins: 1 SEL4G (in) "Set Transmitter for Low Speed PE, Active High.", 4 ON_A1 (out) "High Speed Output Complement.", 5 OP_A1 (out) "High Speed Output.", 7 ON_A0 (out) "High Speed Output Complement.", 8 OP_A0 (out) "High Speed Output.", 10 IN_A1 (in) "High Speed Input Complement.", 11 IP_A1 (in) "High Speed Input.", 13 IN_A0 (in) "High Speed Input Complement.", 14 IP_A0 (in) "High Speed Input.", 17 SCL (in) "I2C Clock Input.", 18 SDA (io) "I2C Data Input/Output.", 19 I2C_A0 (in) "I2C Address Input (LSB).", 20 I2C_A1 (in) "I2C Address Input.", 21 I2C_A2 (in) "I2C Address Input (MSB).", 22 ~{RESET} (in) "Device Reset, Active Low.", 24 ON_B1 (out) "High Speed Output Complement.", 25 OP_B1 (out) "High Speed Output.", 27 ON_B0 (out) "High Speed Output Complement.", 28 OP_B0 (out) "High Speed Output.", 30 EQ_A (in) "Port A Equalizer Control Input.", 31 EQ_B (in) "Port B Equalizer Control Input.", 32 EQ_C (in) "Port C Equalizer Control Input.", 35 IN_B1 (in) "High Speed Input Complement.", 36 IP_B1 (in) "High Speed Input.", 38 IN_B0 (in) "High Speed Input Complement.", 39 IP_B0 (in) "High Speed Input.", 42 ON_C1 (out) "High Speed Output Complement.", 43 OP_C1 (out) "High Speed Output.", 45 ON_C0 (out) "High Speed Output Complement.", 46 OP_C0 (out) "High Speed Output.", 48 LB_C (in) "Port A Loopback Control Input, Active High.", 49 LB_B (in) "Port B Loopback Control Input, Active High.", 50 LB_A (in) "Port C Loopback Control Input, Active High.", 51 LOS_INT (in) "Loss of Signal Interrupt, Active High. Initialization sequence required; see the Applications Information section.", 52 PE_C (in) "Port A Preemphasis Control Input, Active High.", 53 PE_B (in) "Port B Preemphasis Control Input, Active High.", 54 PE_A (in) "Port C Preemphasis Control Input, Active High.", 57 IN_C1 (in) "High Speed Input Complement.", 58 IP_C1 (in) "High Speed Input.", 60 IN_C0 (in) "High Speed Input Complement.", 61 IP_C0 (in) "High Speed Input.", 62 SEL1 (in) "Lane 1 A/B Switch Control Input.", 63 SEL0 (in) "Lane 0 A/B Switch Control Input.", 64 BICAST (in) "Enable Bicast for Port A and Port B Outputs, Active High."
part B pins: 2 VEE (power) "Negative Supply. The exposed pad on the bottom of the package must be electrically connected to VEE.", 3 VTTO (power) "Port A, Port B, and Port C Output Termination Supply.", 6 VCC (power) "Positive Supply.", 9 VTTI (power) "Port A, Port B, and Port C Input Termination Supply.", 12 VCC (power) "Positive Supply.", 15 VEE (power) "Negative Supply. The exposed pad on the bottom of the package must be electrically connected to VEE.", 16 DVCC (power) "Digital Power Supply.", 23 VTTO (power) "Port A, Port B, and Port C Output Termination Supply.", 26 VCC (power) "Positive Supply.", 29 VEE (power) "Negative Supply. The exposed pad on the bottom of the package must be electrically connected to VEE.", 33 VEE (power) "Negative Supply. The exposed pad on the bottom of the package must be electrically connected to VEE.", 34 VTTI (power) "Port A, Port B, and Port C Input Termination Supply.", 37 VCC (power) "Positive Supply.", 40 VCC (power) "Positive Supply.", 41 VTTO (power) "Port A, Port B, and Port C Output Termination Supply.", 44 VCC (power) "Positive Supply.", 47 VEE (power) "Negative Supply. The exposed pad on the bottom of the package must be electrically connected to VEE.", 55 VCC (power) "Positive Supply.", 56 VTTI (power) "Port A, Port B, and Port C Input Termination Supply.", 59 VCC (power) "Positive Supply.", 65 EP (power) "Negative Supply. The exposed pad on the bottom of the package must be electrically connected to VEE."

## AD8156ABCZ
designator U?
Xstream(TM) 6.25 Gbps, 4 x 4, Digital Crosspoint Switch with EQ, 1000 ps Prop Delay, -40 to 85 degC, 49-pin BGA (BC-49-3), Tray; Manufacturer: Analog Devices; PartNumber: AD8156ABCZ; Control Interface: LVCMOS/LVTTL Parallel; Data Rate (Gbps): 6.25; Input Swing (mV p-p): 200-2000; Prop Delay: 1ns; Output Rise/Fall (ps): 75; Supply Current: 141mA; DatasheetVersion: Rev. 0; PackageVersion: 012006-0, 01/2006; PackageReference: BC-49-3; PackageDescription: 49-Ball Chip Scale Package Ball Grid Array, Body 8 x 8 mm, Pitch 1 mm; Supplier 1: Digi-Key; Supplier Part Number 1: AD8156ABCZ-ND; Supplier 2: Newark; Supplier Part Number 2: 84M7815; Supplier 3: Mouser; Supplier Part Number 3: 584-AD8156ABCZ; Packing: Tray; Mounting Technology: Surface Mount; Code_JEDEC: MO-192-ABB-1; ComponentLink1Description: Manufacturer URL; ComponentLink1URL: http://www.analog.com/en/index.html; ComponentLink2Description: Datasheet; ComponentLink2URL: http://www.analog.com/static/imported-files/data_sheets/AD8156.pdf; ComponentLink3Description: Package Specification; ComponentLink3URL: http://www.analog.com/static/imported-files/packages/5225654635437328832BC_49_3.pdf
footprint ADI-BC-49-3 (BGA, 49-Balls, Body 8x8mm, Pitch 1mm)
part A pins: A2 IN1N (in) "High Speed Input Complement.", A3 IN1P (in) "High Speed Input.", A5 IN0N (in) "High Speed Input Complement.", A6 IN0P (in) "High Speed Input.", B1 IN2P (in) "High Speed Input.", B3 D3 (io) "Input Address Pin (MSB).", B5 MODE (in) "Mode Select Pin.", B7 OUT0P (out) "High Speed Output.", C1 IN2N (in) "High Speed Input Complement.", C2 D0 (io) "High Speed Input Complement.", C3 D2 (io) "Input Address Pin.", C4 ~{RST} (in) "Reset/Disable Outputs.", C5 ~{WE} (in) "First Bank Write Enable.", C6 ~{CS} (in) "Chip Select Enable.", C7 OUT0N (out) "High Speed Output Complement.", D3 D1 (io) "Input Address Pin.", D5 ~{UPD} (in) "Second Bank Write Enable.", E1 IN3P (in) "High Speed Input.", E2 A0 (in) "Address Pin (LSB).", E3 A1 (in) "Address Pin.", E4 A3 (in) "Address Pin (MSB).", E5 ~{RE} (in) "Second Bank Read Enable.", E7 OUT1P (out) "High Speed Output.", F1 IN3N (in) "High Speed Input Complement.", F3 A2 (in) "Address Pin.", F7 OUT1N (out) "High Speed Output Complement.", G2 OUT3N (out) "High Speed Output Complement.", G3 OUT3P (out) "High Speed Output.", G5 OUT2N (out) "High Speed Output Complement.", G6 OUT2P (out) "High Speed Output."
part B pins: A1 VEE (power) "Negative Supply.", A4 VTTI (power) "Input Termination Supply.", A7 VCC (power) "Positive Supply.", B2 VEE (power) "Negative Supply.", B4 VEE (power) "Negative Supply.", B6 VCC (power) "Positive Supply.", D1 VTTI (power) "Input Termination Supply.", D2 VEE (power) "Negative Supply.", D4 VEE (power) "Negative Supply.", D6 VCC (power) "Positive Supply.", D7 VTTO (power) "Output Termination Supply.", E6 VCC (power) "Positive Supply.", F2 VCC (power) "Positive Supply.", F4 VEE (power) "Negative Supply.", F5 VEE (power) "Negative Supply.", F6 VEE (power) "Negative Supply.", G1 VCC (power) "Positive Supply.", G4 VTTO (power) "Output Termination Supply.", G7 VEE (power) "Negative Supply."

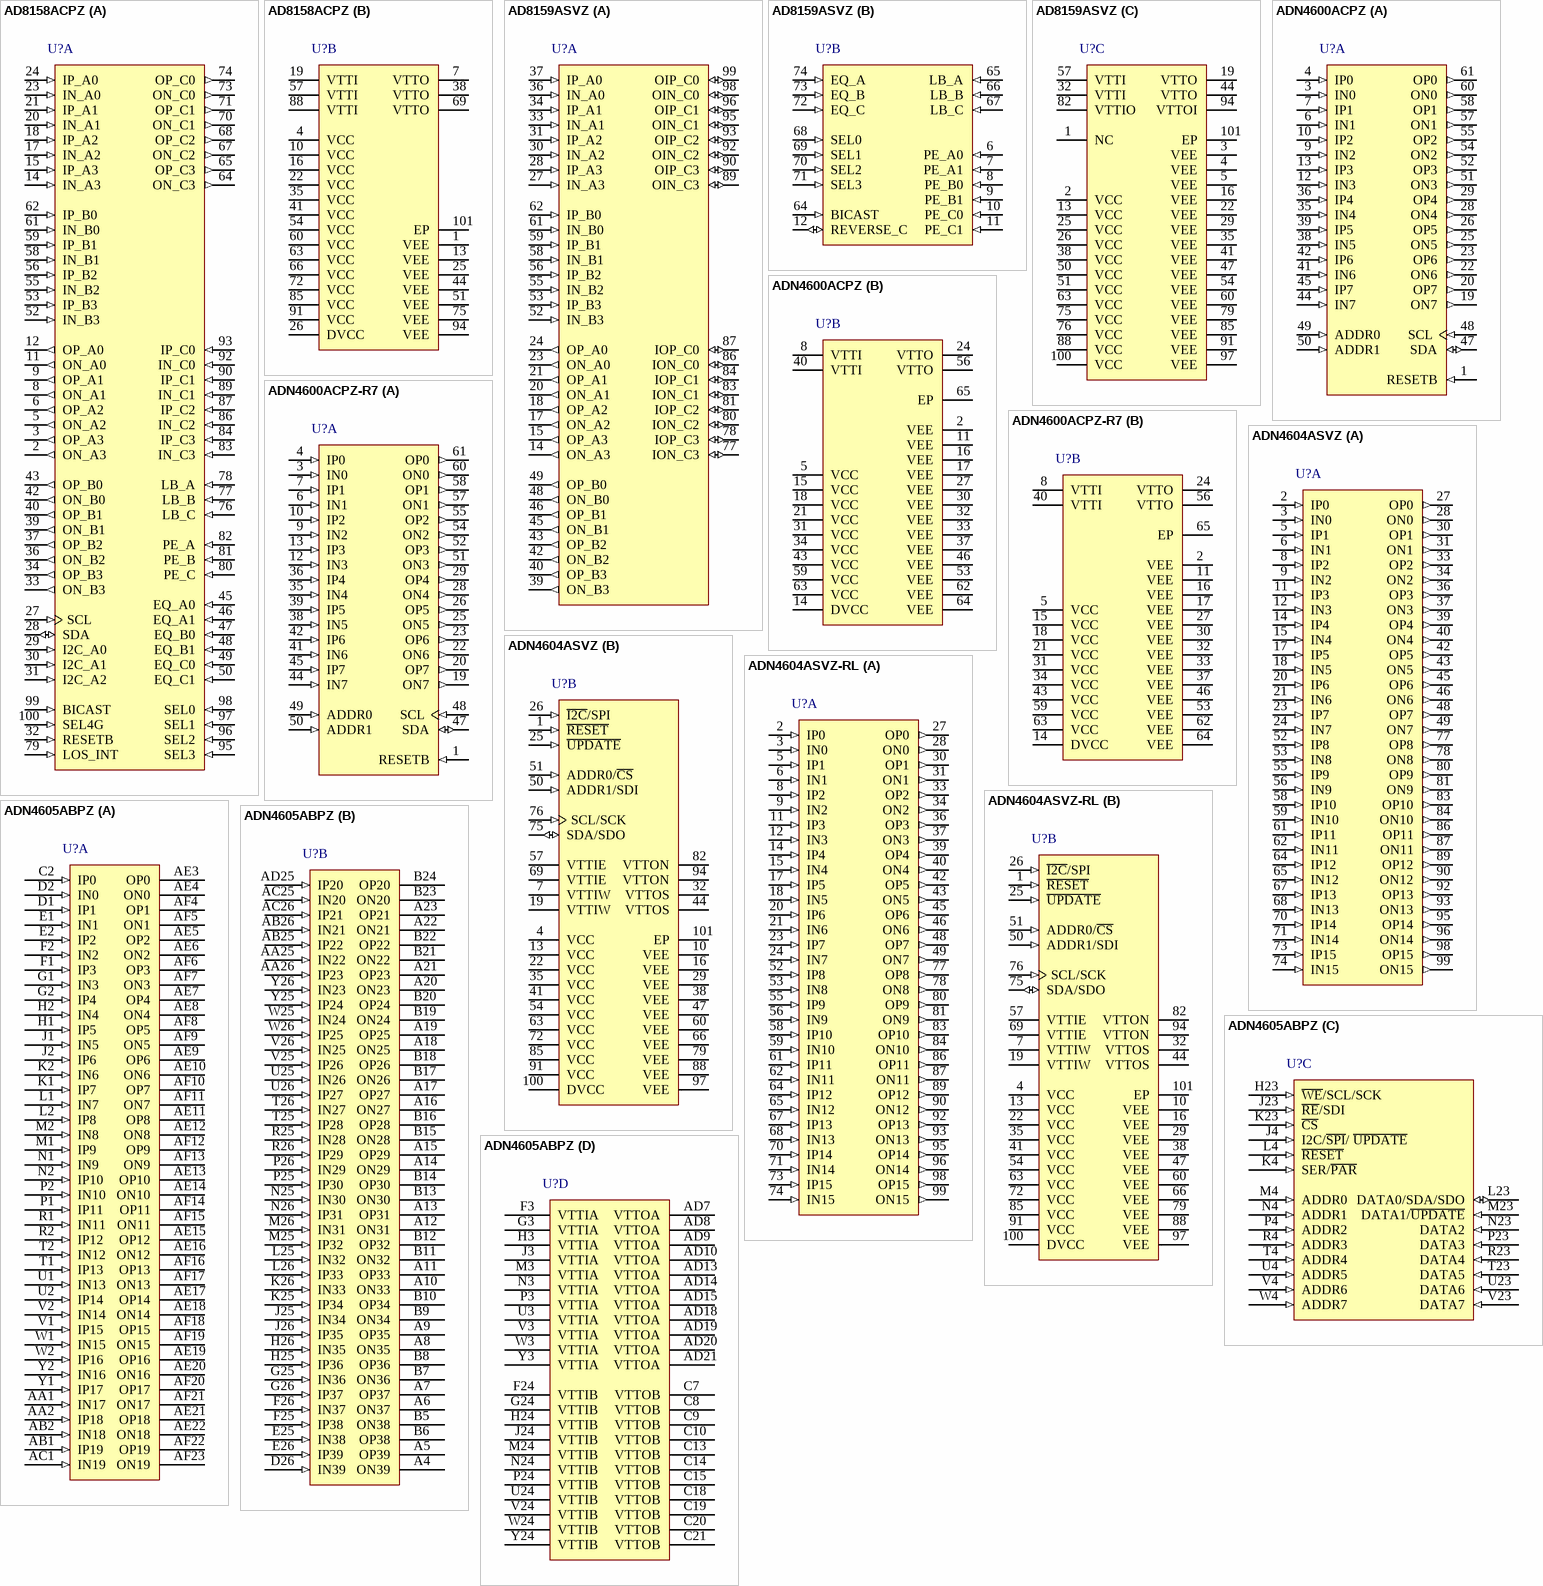
[diagram p3: symbols AD8158ACPZ to ADN4605ABPZ]

## AD8158ACPZ
designator U?
Xstream(TM) 6.5 Gbps Dual Buffer Mux / Demux, 700 ps Prop Delay, -40 to 85 degC, 100-pin QFN (CP-100-1), Tray; Manufacturer: Analog Devices; PartNumber: AD8158ACPZ; Control Interface: I2C; Data Rate (Gbps): 6.5; Input Swing (mV p-p): 200-2000; Prop Delay: 700ps; Output Rise/Fall (ps): 62; Supply Current: 860mA; DatasheetVersion: Rev. B; PackageVersion: 061108-B, 06/2008; PackageReference: CP-100-1; PackageDescription: 100-Pin Lead Frame Chip Scale Package, Body 12 x 12 mm, Pitch 0.4 mm; Supplier 1: Digi-Key; Supplier Part Number 1: AD8158ACPZ-ND; Supplier 2: Newark; Supplier Part Number 2: 14N5818; Supplier 3: Mouser; Supplier Part Number 3: 584-AD8158ACPZ; Packing: Tray; Mounting Technology: Surface Mount; Code_JEDEC: MO-220-VRRE; ComponentLink1Description: Manufacturer URL; ComponentLink1URL: http://www.analog.com/en/index.html; ComponentLink2Description: Datasheet; ComponentLink2URL: http://www.analog.com/static/imported-files/data_sheets/AD8158.pdf; ComponentLink3Description: Package Specification; ComponentLink3URL: http://www.analog.com/static/imported-files/packages/CP_100_1%20.pdf
footprint ADI-CP-100-1_N (QFN, 100-Leads, Body 12x12mm, Pitch 0.4mm, Thermal Pad 6.9x6.9mm, IPC Medium Density)
footprint ADI-CP-100-1_L (QFN, 100-Leads, Body 12x12mm, Pitch 0.4mm, Thermal Pad 6.9x6.9mm, IPC High Density)
footprint ADI-CP-100-1_M (QFN, 100-Leads, Body 12x12mm, Pitch 0.4mm, Thermal Pad 6.9x6.9mm, IPC Low Density)
part A pins: 2 ON_A3 (out) "High Speed Output Complement", 3 OP_A3 (out) "High Speed Output", 5 ON_A2 (out) "High Speed Output Complement", 6 OP_A2 (out) "High Speed Output", 8 ON_A1 (out) "High Speed Output Complement", 9 OP_A1 (out) "High Speed Output", 11 ON_A0 (out) "High Speed Output Complement", 12 OP_A0 (out) "High Speed Output", 14 IN_A3 (in) "High Speed Input Complement", 15 IP_A3 (in) "High Speed Input", 17 IN_A2 (in) "High Speed Input Complement", 18 IP_A2 (in) "High Speed Input", 20 IN_A1 (in) "High Speed Input Complement", 21 IP_A1 (in) "High Speed Input", 23 IN_A0 (in) "High Speed Input Complement", 24 IP_A0 (in) "High Speed Input", 27 SCL (in) "I2C Clock Pin", 28 SDA (io) "I2C Data Pin", 29 I2C_A0 (in) "I2C Address Pin (LSB)", 30 I2C_A1 (in) "I2C Address Pin", 31 I2C_A2 (in) "I2C Address Pin (MSB)", 32 RESETB (in) "Chip Reset. Active Low", 33 ON_B3 (out) "High Speed Output Complement", 34 OP_B3 (out) "High Speed Output", 36 ON_B2 (out) "High Speed Output Complement", 37 OP_B2 (out) "High Speed Output", 39 ON_B1 (out) "High Speed Output Complement", 40 OP_B1 (out) "High Speed Output", 42 ON_B0 (out) "High Speed Output Complement", 43 OP_B0 (out) "High Speed Output", 45 EQ_A0 (in) "Port A Equalizer Control Bit 0 (LSB)", 46 EQ_A1 (in) "Port A Equalizer Control Bit 1 (MSB)", 47 EQ_B0 (in) "Port B Equalizer Control Bit 0 (LSB)", 48 EQ_B1 (in) "Port B Equalizer Control Bit 1 (MSB)", 49 EQ_C0 (in) "Port C Equalizer Control Bit 0 (LSB)", 50 EQ_C1 (in) "Port C Equalizer Control Bit 1 (MSB)", 52 IN_B3 (in) "High Speed Input Complement", 53 IP_B3 (in) "High Speed Input", 55 IN_B2 (in) "High Speed Input Complement", 56 IP_B2 (in) "High Speed Input", 58 IN_B1 (in) "High Speed Input Complement", 59 IP_B1 (in) "High Speed Input", 61 IN_B0 (in) "High Speed Input Complement", 62 IP_B0 (in) "High Speed Input", 64 ON_C3 (out) "High Speed Output Complement", 65 OP_C3 (out) "High Speed Output", 67 ON_C2 (out) "High Speed Output Complement", 68 OP_C2 (out) "High Speed Output", 70 ON_C1 (out) "High Speed Output Complement", 71 OP_C1 (out) "High Speed Output", 73 ON_C0 (out) "High Speed Output Complement", 74 OP_C0 (out) "High Speed Output", 76 LB_C (in) "Loopback Enable for Port C, Active High", 77 LB_B (in) "Loopback Enable for Port B, Active High", 78 LB_A (in) "Loopback Enable for Port A, Active High", 79 LOS_INT (in) "Loss of Signal Interrupt, Active High", 80 PE_C (in) "Pre-Emphasis Control for Port C, Active High", 81 PE_B (in) "Pre-Emphasis Control for Port B, Active High", 82 PE_A (in) "Pre-Emphasis Control for Port A, Active High", 83 IN_C3 (in) "High Speed Input Complement", 84 IP_C3 (in) "High Speed Input", 86 IN_C2 (in) "High Speed Input Complement", 87 IP_C2 (in) "High Speed Input", 89 IN_C1 (in) "High Speed Input Complement", 90 IP_C1 (in) "High Speed Input", 92 IN_C0 (in) "High Speed Input Complement", 93 IP_C0 (in) "High Speed Input", 95 SEL3 (in) "Lane 3 A/B Switch Control", 96 SEL2 (in) "Lane 2 A/B Switch Control", 97 SEL1 (in) "Lane 1 A/B Switch Control", 98 SEL0 (in) "Lane 0 A/B Switch Control", 99 BICAST (in) "Enable Bicast Mode for Port A and Port B Outputs, Active High", 100 SEL4G (in) "Set Transmitter for Low Speed PE, Active High"
part B pins: 1 VEE (power) "Negative Supply", 4 VCC (power) "Positive Supply", 7 VTTO (power) "Port A, Port B, and Port C Output Termination Supply", 10 VCC (power) "Positive Supply", 13 VEE (power) "Negative Supply", 16 VCC (power) "Positive Supply", 19 VTTI (power) "Port A, Port B, and Port C Input Termination Supply", 22 VCC (power) "Positive Supply", 25 VEE (power) "Negative Supply", 26 DVCC (power) "Digital Power Supply", 35 VCC (power) "Positive Supply", 38 VTTO (power) "Port A, Port B, and Port C Output Termination Supply", 41 VCC (power) "Positive Supply", 44 VEE (power) "Negative Supply", 51 VEE (power) "Negative Supply", 54 VCC (power) "Positive Supply", 57 VTTI (power) "Port A, Port B, and Port C Input Termination Supply", 60 VCC (power) "Positive Supply", 63 VCC (power) "Positive Supply", 66 VCC (power) "Positive Supply", 69 VTTO (power) "Port A, Port B, and Port C Output Termination Supply", 72 VCC (power) "Positive Supply", 75 VEE (power) "Negative Supply", 85 VCC (power) "Positive Supply", 88 VTTI (power) "Port A, Port B, and Port C Input Termination Supply", 91 VCC (power) "Positive Supply", 94 VEE (power) "Negative Supply", 101 EP (power) "Exposd pad."